# EAGLE library part ADM1032ARZ (library on-semiconductor-01)
+- 1C Remote and Local System Temperature Monitor
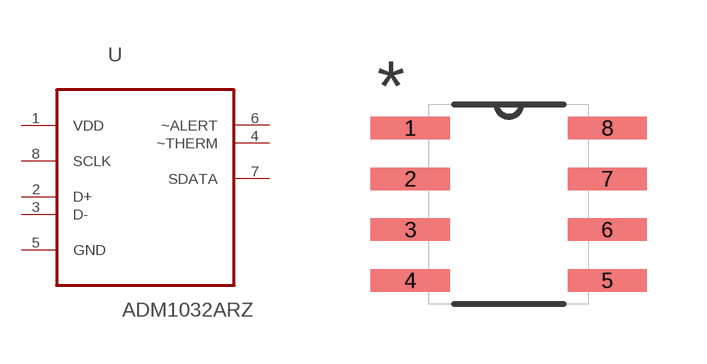
[diagram p4: symbol with the pads of SOIC127P600X175-8N; footprint SOIC127P600X175-8N]

Designator prefix U

## ADM1032ARZ (MPN: ADM1032ARMZ; OC_FARNELL: -; OC_NEWARK: 59K1789; PACKAGE: SOIC-8; SUPPLIER: ON SEMICONDUCTOR)  [SOIC127P600X175-8N]
1  VDD  pwr
2  D+  in
3  D-  in
4  ~THERM  out
5  GND  pas
6  ~ALERT  out
7  SDATA
8  SCLK  in

## Footprint SOIC127P600X175-8N (pad centres in mm)
smd 1.981 x 0.559: 1 -2.464,1.905; 2 -2.464,0.635; 3 -2.464,-0.635; 4 -2.464,-1.905; 5 2.464,-1.905; 6 2.464,-0.635; 7 2.464,0.635; 8 2.464,1.905